# EAGLE library part MCP-14700 (library MyComponents)
Syncronous MOSFET Driver
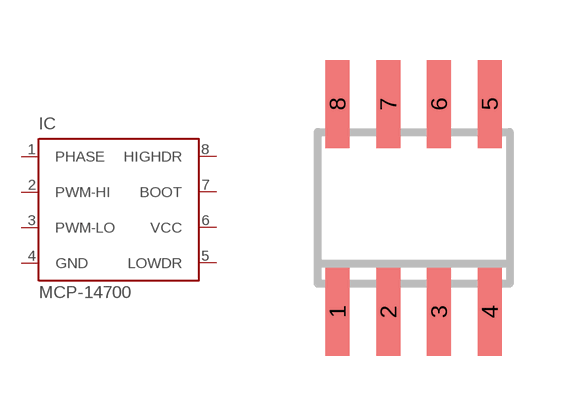
[diagram p1: symbol with the pads of SO-08; footprint SO-08]

Designator prefix IC

## MCP-14700  [SO-08]
1  PHASE  in
2  PWM-HI  in
3  PWM-LO  in
4  GND  in
5  LOWDR  in
6  VCC  pwr
7  BOOT  out
8  HIGHDR  in

## Footprint SO-08 (pad centres in mm)
Small Outline Narrow Plastic Gull Wing SOIC8, JEDEC MS-012 AA, 150-mil body, package type SN
smd 0.6 x 2.2: 1 -1.905,-2.6; 2 -0.635,-2.6; 3 0.635,-2.6; 4 1.905,-2.6; 5 1.905,2.6; 6 0.635,2.6; 7 -0.635,2.6; 8 -1.905,2.6